# Altium schematic symbol library Maxim Amplifiers and Comparators.SchLib: 420 symbols (part 8 of 16)
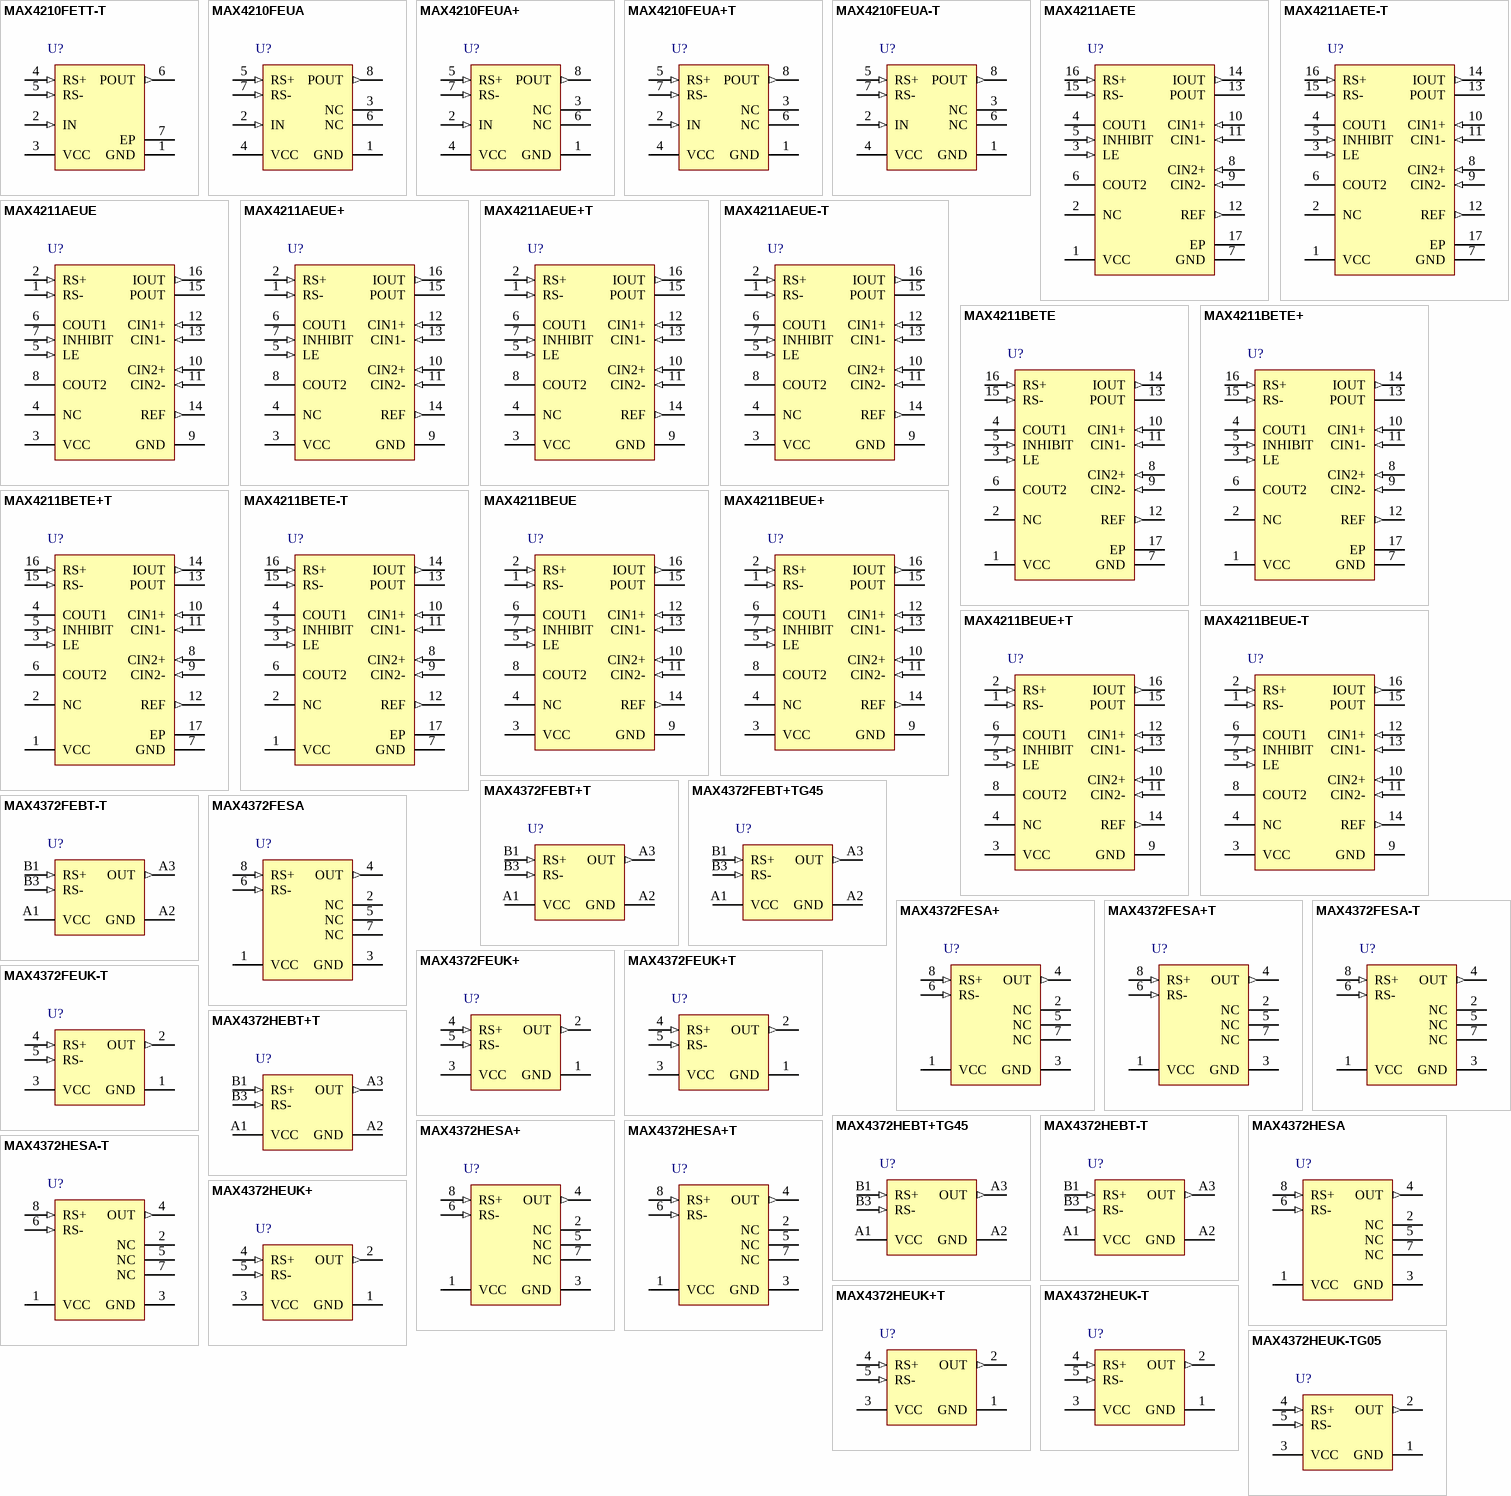
[diagram p17: symbols MAX4210FETT-T to MAX4372HEUK-TG05]

## MAX4372FEBT-T
designator U?
Micropower, Voltage-Output, High-Side, Current-Sense Amplifier, 50 V / V Gain, -40 to 85 degC, 5-Pin BGA (B6-2), Tape and Reel; PartNumber: MAX4372FEBT-T; Bi-Dir. Curr. Sense: No; Gain: 20 V/V, 50 V/V ,100 V/V; DatasheetVersion: Rev. 5; PackageVersion: Rev. H, 09/2009; PackageReference: B6-2; PackageDescription: 6-Pin Ultra Chip-Scale Package, Body 1 x 1.52 mm, Pitch 0.5 mm; Supplier 1: Mouser; Supplier Part Number 1: N/A; Mounting Technology: Surface Mount; ComponentLink1Description: Manufacturer URL; ComponentLink1URL: http://www.maximintegrated.com/; ComponentLink2Description: Datasheet; ComponentLink2URL: http://datasheets.maximintegrated.com/en/ds/MAX4372-MAX4372T.pdf; ComponentLink3Description: Package Specification; ComponentLink3URL: http://pdfserv.maximintegrated.com/package_dwgs/21-0097.PDF
footprint MAXM-B6-2 (BGA, 5-Balls, Body 1.52x1mm, Pitch 0.5mm)
pins: A1 VCC (power) "Supply Voltage. Use at least a 0.1uF capacitor to decouple VCC from fast transients.", A2 GND (power) "Ground", A3 OUT (out) "Output Voltage. VOUT is proportional to the magnitude of VSENSE (VRS+ - VRS-).", B1 RS+ (in) "Power Connection to the External Sense Resistor", B3 RS- (in) "Load-side connection to the external sense resistor"

## MAX4372FESA
designator U?
Micropower, Voltage-Output, High-Side, Current-Sense Amplifier, 50 V / V Gain, -40 to +85 degC, 8-Pin SOIC (S8-2); PartNumber: MAX4372FESA; Bi-Dir. Curr. Sense: No; Gain: 20 V/V, 50 V/V ,100 V/V; DatasheetVersion: Rev. 5; PackageVersion: Rev. D, 10/2012; PackageReference: S8-2; PackageDescription: 8-Pin Small-Outline IC, Narrow (0.15in) (S8-2), Body 4.90 x 3.90 mm, Pitch 1.27 mm; Supplier 1: Digi-Key; Supplier Part Number 1: MAX4372FESA-ND; Supplier 2: Mouser; Supplier Part Number 2: 700-MAX4372FESA-NR; Mounting Technology: Surface Mount; Code_JEDEC: MS012; ComponentLink1Description: Manufacturer URL; ComponentLink1URL: http://www.maximintegrated.com/; ComponentLink2Description: Datasheet; ComponentLink2URL: http://datasheets.maximintegrated.com/en/ds/MAX4372-MAX4372T.pdf; ComponentLink3Description: Package Specification; ComponentLink3URL: http://pdfserv.maximintegrated.com/package_dwgs/21-0041.PDF
footprint MAXM-S8-2_N (SOIC, 8-Leads, Body 4.90x3.90mm, Pitch 1.27mm, IPC Medium Density)
footprint MAXM-S8-2_L (SOIC, 8-Leads, Body 4.90x3.90mm, Pitch 1.27mm, IPC High Density)
footprint MAXM-S8-2_M (SOIC, 8-Leads, Body 4.90x3.90mm, Pitch 1.27mm, IPC Low Density)
pins: 1 VCC (power) "Supply Voltage. Use at least a 0.1uF capacitor to decouple VCC from fast transients", 2 NC "No Connection. Not internally connected.", 3 GND (power) "Ground", 4 OUT (out) "Output Voltage. VOUT is proportional to the magnitude of VSENSE (VRS+ - VRS-).", 5 NC "No Connection. Not internally connected.", 6 RS- (in) "Load connection to the external sense resistor.", 7 NC "No Connection. Not internally connected.", 8 RS+ (in) "Power connection to the external-sense resistor."

## MAX4372FESA+
designator U?
Micropower, Voltage-Output, High-Side, Current-Sense Amplifier, 50 V / V Gain, -40 to +85 degC, 8-Pin SOIC (S8+2), Pb-Free; PartNumber: MAX4372FESA+; Bi-Dir. Curr. Sense: No; Gain: 20 V/V, 50 V/V ,100 V/V; DatasheetVersion: Rev. 5; PackageVersion: Rev. D, 10/2012; PackageReference: S8+2; PackageDescription: 8-Pin Small-Outline IC, Narrow (0.15in) (S8+2), Body 4.90 x 3.90 mm, Pitch 1.27 mm; Supplier 1: Digi-Key; Supplier Part Number 1: MAX4372FESA+-ND; Supplier 2: Mouser; Supplier Part Number 2: 700-MAX4372FESA; Mounting Technology: Surface Mount; Code_JEDEC: MS012; ComponentLink1Description: Manufacturer URL; ComponentLink1URL: http://www.maximintegrated.com/; ComponentLink2Description: Datasheet; ComponentLink2URL: http://datasheets.maximintegrated.com/en/ds/MAX4372-MAX4372T.pdf; ComponentLink3Description: Package Specification; ComponentLink3URL: http://pdfserv.maximintegrated.com/package_dwgs/21-0041.PDF
footprint MAXM-S8+2_N (SOIC, 8-Leads, Body 4.90x3.90mm, Pitch 1.27mm, IPC Medium Density)
footprint MAXM-S8+2_L (SOIC, 8-Leads, Body 4.90x3.90mm, Pitch 1.27mm, IPC High Density)
footprint MAXM-S8+2_M (SOIC, 8-Leads, Body 4.90x3.90mm, Pitch 1.27mm, IPC Low Density)
pins: 1 VCC (power) "Supply Voltage. Use at least a 0.1uF capacitor to decouple VCC from fast transients", 2 NC "No Connection. Not internally connected.", 3 GND (power) "Ground", 4 OUT (out) "Output Voltage. VOUT is proportional to the magnitude of VSENSE (VRS+ - VRS-).", 5 NC "No Connection. Not internally connected.", 6 RS- (in) "Load connection to the external sense resistor.", 7 NC "No Connection. Not internally connected.", 8 RS+ (in) "Power connection to the external-sense resistor."

## MAX4372FESA+T
designator U?
Micropower, Voltage-Output, High-Side, Current-Sense Amplifier, 50 V / V Gain, -40 to 85 degC, 8-Pin SOIC (S8+2), Pb-Free, Tape and Reel; PartNumber: MAX4372FESA+T; Bi-Dir. Curr. Sense: No; Gain: 20 V/V, 50 V/V ,100 V/V; DatasheetVersion: Rev. 5; PackageVersion: Rev. D, 10/2012; PackageReference: S8+2; PackageDescription: 8-Pin Small-Outline IC, Narrow (0.15in) (S8+2), Body 4.90 x 3.90 mm, Pitch 1.27 mm; Supplier 1: Digi-Key; Supplier Part Number 1: MAX4372FESA+T-ND; Supplier 2: Mouser; Supplier Part Number 2: 700-MAX4372FESA+T; Mounting Technology: Surface Mount; Code_JEDEC: MS012; ComponentLink1Description: Manufacturer URL; ComponentLink1URL: http://www.maximintegrated.com/; ComponentLink2Description: Datasheet; ComponentLink2URL: http://datasheets.maximintegrated.com/en/ds/MAX4372-MAX4372T.pdf; ComponentLink3Description: Package Specification; ComponentLink3URL: http://pdfserv.maximintegrated.com/package_dwgs/21-0041.PDF
footprint MAXM-S8+2_N (SOIC, 8-Leads, Body 4.90x3.90mm, Pitch 1.27mm, IPC Medium Density)
footprint MAXM-S8+2_L (SOIC, 8-Leads, Body 4.90x3.90mm, Pitch 1.27mm, IPC High Density)
footprint MAXM-S8+2_M (SOIC, 8-Leads, Body 4.90x3.90mm, Pitch 1.27mm, IPC Low Density)
pins: 1 VCC (power) "Supply Voltage. Use at least a 0.1uF capacitor to decouple VCC from fast transients", 2 NC "No Connection. Not internally connected.", 3 GND (power) "Ground", 4 OUT (out) "Output Voltage. VOUT is proportional to the magnitude of VSENSE (VRS+ - VRS-).", 5 NC "No Connection. Not internally connected.", 6 RS- (in) "Load connection to the external sense resistor.", 7 NC "No Connection. Not internally connected.", 8 RS+ (in) "Power connection to the external-sense resistor."

## MAX4372FESA-T
designator U?
Micropower, Voltage-Output, High-Side, Current-Sense Amplifier, 50 V / V Gain, -40 to 85 degC, 8-Pin SOIC (S8-2), Tape and Reel; PartNumber: MAX4372FESA-T; Bi-Dir. Curr. Sense: No; Gain: 20 V/V, 50 V/V ,100 V/V; DatasheetVersion: Rev. 5; PackageVersion: Rev. D, 10/2012; PackageReference: S8-2; PackageDescription: 8-Pin Small-Outline IC, Narrow (0.15in) (S8-2), Body 4.90 x 3.90 mm, Pitch 1.27 mm; Supplier 1: Digi-Key; Supplier Part Number 1: MAX4372FESA-T-ND; Supplier 2: Mouser; Supplier Part Number 2: 700-MAX4372FESA-T-; Mounting Technology: Surface Mount; Code_JEDEC: MS012; ComponentLink1Description: Manufacturer URL; ComponentLink1URL: http://www.maximintegrated.com/; ComponentLink2Description: Datasheet; ComponentLink2URL: http://datasheets.maximintegrated.com/en/ds/MAX4372-MAX4372T.pdf; ComponentLink3Description: Package Specification; ComponentLink3URL: http://pdfserv.maximintegrated.com/package_dwgs/21-0041.PDF
footprint MAXM-S8-2_N (SOIC, 8-Leads, Body 4.90x3.90mm, Pitch 1.27mm, IPC Medium Density)
footprint MAXM-S8-2_L (SOIC, 8-Leads, Body 4.90x3.90mm, Pitch 1.27mm, IPC High Density)
footprint MAXM-S8-2_M (SOIC, 8-Leads, Body 4.90x3.90mm, Pitch 1.27mm, IPC Low Density)
pins: 1 VCC (power) "Supply Voltage. Use at least a 0.1uF capacitor to decouple VCC from fast transients", 2 NC "No Connection. Not internally connected.", 3 GND (power) "Ground", 4 OUT (out) "Output Voltage. VOUT is proportional to the magnitude of VSENSE (VRS+ - VRS-).", 5 NC "No Connection. Not internally connected.", 6 RS- (in) "Load connection to the external sense resistor.", 7 NC "No Connection. Not internally connected.", 8 RS+ (in) "Power connection to the external-sense resistor."

## MAX4372FEUK+
designator U?
Micropower, Voltage-Output, High-Side, Current-Sense Amplifier, 50 V / V Gain, -40 to +85 degC, 5-Pin SOT23 (U5+1), Pb-Free; PartNumber: MAX4372FEUK+; Bi-Dir. Curr. Sense: No; Gain: 20 V/V, 50 V/V ,100 V/V; DatasheetVersion: Rev. 5; PackageVersion: Rev. G, 04/2011; PackageReference: U5+1; PackageDescription: 5-Pin Small-Outline Transistor Package (U5+1), Body 2.90 x 1.625 mm, Pitch 0.95 mm; Supplier 1: Mouser; Supplier Part Number 1: N/A; Mounting Technology: Surface Mount; Code_JEDEC: MO178; ComponentLink1Description: Manufacturer URL; ComponentLink1URL: http://www.maximintegrated.com/; ComponentLink2Description: Datasheet; ComponentLink2URL: http://datasheets.maximintegrated.com/en/ds/MAX4372-MAX4372T.pdf; ComponentLink3Description: Package Specification; ComponentLink3URL: http://pdfserv.maximintegrated.com/package_dwgs/21-0057.PDF
footprint MAXM-U5+1_N (SOT23, 5-Leads, Body 2.9x1.625mm, Pitch 0.95mm, IPC Medium Density)
footprint MAXM-U5+1_L (SOT23, 5-Leads, Body 2.9x1.625mm, Pitch 0.95mm, IPC High Density)
footprint MAXM-U5+1_M (SOT23, 5-Leads, Body 2.9x1.625mm, Pitch 0.95mm, IPC Low Density)
pins: 1 GND (power) "Ground", 2 OUT (out) "Output Voltage. VOUT is proportional to the magnitude of VSENSE (VRS+ - VRS-).", 3 VCC (power) "Supply Voltage. Use at least a 0.1 uF capacitor to decouple VCC from fast transients.", 4 RS+ (in) "Power connection to the external sense resistor", 5 RS- (in) "Load-side connection to the external sense resistor"

## MAX4372FEUK+T
designator U?
Micropower, Voltage-Output, High-Side, Current-Sense Amplifier, 50 V / V Gain, -40 to 85 degC, 5-Pin SOT23 (U5+1), Pb-Free, Tape and Reel; PartNumber: MAX4372FEUK+T; Bi-Dir. Curr. Sense: No; Gain: 20 V/V, 50 V/V ,100 V/V; DatasheetVersion: Rev. 5; PackageVersion: Rev. G, 04/2011; PackageReference: U5+1; PackageDescription: 5-Pin Small-Outline Transistor Package (U5+1), Body 2.90 x 1.625 mm, Pitch 0.95 mm; Supplier 1: Digi-Key; Supplier Part Number 1: MAX4372FEUK+TTR-ND; Supplier 2: Digi-Key; Supplier Part Number 2: MAX4372FEUK+TCT-ND; Supplier 3: Digi-Key; Supplier Part Number 3: MAX4372FEUK+TDKR-ND; Supplier 4: Farnell; Supplier Part Number 4: 2085156; Supplier 5: Newark; Supplier Part Number 5: 89T8834; Supplier 6: Newark; Supplier Part Number 6: 68K9433; Supplier 7: Mouser; Supplier Part Number 7: 700-MAX4372FEUKT; Mounting Technology: Surface Mount; Code_JEDEC: MO178; ComponentLink1Description: Manufacturer URL; ComponentLink1URL: http://www.maximintegrated.com/; ComponentLink2Description: Datasheet; ComponentLink2URL: http://datasheets.maximintegrated.com/en/ds/MAX4372-MAX4372T.pdf; ComponentLink3Description: Package Specification; ComponentLink3URL: http://pdfserv.maximintegrated.com/package_dwgs/21-0057.PDF
footprint MAXM-U5+1_N (SOT23, 5-Leads, Body 2.9x1.625mm, Pitch 0.95mm, IPC Medium Density)
footprint MAXM-U5+1_L (SOT23, 5-Leads, Body 2.9x1.625mm, Pitch 0.95mm, IPC High Density)
footprint MAXM-U5+1_M (SOT23, 5-Leads, Body 2.9x1.625mm, Pitch 0.95mm, IPC Low Density)
pins: 1 GND (power) "Ground", 2 OUT (out) "Output Voltage. VOUT is proportional to the magnitude of VSENSE (VRS+ - VRS-).", 3 VCC (power) "Supply Voltage. Use at least a 0.1 uF capacitor to decouple VCC from fast transients.", 4 RS+ (in) "Power connection to the external sense resistor", 5 RS- (in) "Load-side connection to the external sense resistor"

## MAX4372FEUK-T
designator U?
Micropower, Voltage-Output, High-Side, Current-Sense Amplifier, 50 V / V Gain, -40 to 85 degC, 5-Pin SOT23 (U5-1), Tape and Reel; PartNumber: MAX4372FEUK-T; Bi-Dir. Curr. Sense: No; Gain: 20 V/V, 50 V/V ,100 V/V; DatasheetVersion: Rev. 5; PackageVersion: Rev. G, 04/2011; PackageReference: U5-1; PackageDescription: 5-Pin Small-Outline Transistor Package (U5-1), Body 2.9 x 1.625 mm, Pitch 0.95 mm; Supplier 1: Digi-Key; Supplier Part Number 1: MAX4372FEUK-T-ND; Supplier 2: Mouser; Supplier Part Number 2: 700-MAX4372FEUK-T-NR; Mounting Technology: Surface Mount; Code_JEDEC: MO178; ComponentLink1Description: Manufacturer URL; ComponentLink1URL: http://www.maximintegrated.com/; ComponentLink2Description: Datasheet; ComponentLink2URL: http://datasheets.maximintegrated.com/en/ds/MAX4372-MAX4372T.pdf; ComponentLink3Description: Package Specification; ComponentLink3URL: http://pdfserv.maximintegrated.com/package_dwgs/21-0057.PDF
footprint MAXM-U5-1_N (SOT23, 5-Leads, Body 2.9x1.625mm, Pitch 0.95mm, IPC Medium Density)
footprint MAXM-U5-1_L (SOT23, 5-Leads, Body 2.9x1.625mm, Pitch 0.95mm, IPC High Density)
footprint MAXM-U5-1_M (SOT23, 5-Leads, Body 2.9x1.625mm, Pitch 0.95mm, IPC Low Density)
pins: 1 GND (power) "Ground", 2 OUT (out) "Output Voltage. VOUT is proportional to the magnitude of VSENSE (VRS+ - VRS-).", 3 VCC (power) "Supply Voltage. Use at least a 0.1 uF capacitor to decouple VCC from fast transients.", 4 RS+ (in) "Power connection to the external sense resistor", 5 RS- (in) "Load-side connection to the external sense resistor"

## MAX4372HEBT+T
designator U?
Micropower, Voltage-Output, High-Side, Current-Sense Amplifier, 100 V / V Gain, -40 to 85 degC, 5-Pin BGA (B6+2), Pb-Free, Tape and Reel; PartNumber: MAX4372HEBT+T; Bi-Dir. Curr. Sense: No; Gain: 20 V/V, 50 V/V ,100 V/V; DatasheetVersion: Rev. 5; PackageVersion: Rev. H, 09/2009; PackageReference: B6+2; PackageDescription: 6-Pin Ultra Chip-Scale Package, Body 1 x 1.52 mm, Pitch 0.5 mm; Supplier 1: Digi-Key; Supplier Part Number 1: MAX4372HEBT+T-ND; Supplier 2: Mouser; Supplier Part Number 2: 700-MAX4372HEBT+T; Mounting Technology: Surface Mount; ComponentLink1Description: Manufacturer URL; ComponentLink1URL: http://www.maximintegrated.com/; ComponentLink2Description: Datasheet; ComponentLink2URL: http://datasheets.maximintegrated.com/en/ds/MAX4372-MAX4372T.pdf; ComponentLink3Description: Package Specification; ComponentLink3URL: http://pdfserv.maximintegrated.com/package_dwgs/21-0097.PDF
footprint MAXM-B6+2 (BGA, 5-Balls, Body 1.52x1mm, Pitch 0.5mm)
pins: A1 VCC (power) "Supply Voltage. Use at least a 0.1uF capacitor to decouple VCC from fast transients.", A2 GND (power) "Ground", A3 OUT (out) "Output Voltage. VOUT is proportional to the magnitude of VSENSE (VRS+ - VRS-).", B1 RS+ (in) "Power Connection to the External Sense Resistor", B3 RS- (in) "Load-side connection to the external sense resistor"

## MAX4372HEBT+TG45
designator U?
Micropower, Voltage-Output, High-Side, Current-Sense Amplifier, 100 V / V Gain, -40 to 85 degC, 5-Pin BGA (B6+2), Pb-Free; PartNumber: MAX4372HEBT+TG45; Bi-Dir. Curr. Sense: No; Gain: 20 V/V, 50 V/V ,100 V/V; DatasheetVersion: Rev. 5; PackageVersion: Rev. H, 09/2009; PackageReference: B6+2; PackageDescription: 6-Pin Ultra Chip-Scale Package, Body 1 x 1.52 mm, Pitch 0.5 mm; Supplier 1: Digi-Key; Supplier Part Number 1: MAX4372HEBT+TG45-ND; Supplier 2: Mouser; Supplier Part Number 2: 700-MAX4372HEBT+TG45; Mounting Technology: Surface Mount; ComponentLink1Description: Manufacturer URL; ComponentLink1URL: http://www.maximintegrated.com/; ComponentLink2Description: Datasheet; ComponentLink2URL: http://datasheets.maximintegrated.com/en/ds/MAX4372-MAX4372T.pdf; ComponentLink3Description: Package Specification; ComponentLink3URL: http://pdfserv.maximintegrated.com/package_dwgs/21-0097.PDF
footprint MAXM-B6+2 (BGA, 5-Balls, Body 1.52x1mm, Pitch 0.5mm)
pins: A1 VCC (power) "Supply Voltage. Use at least a 0.1uF capacitor to decouple VCC from fast transients.", A2 GND (power) "Ground", A3 OUT (out) "Output Voltage. VOUT is proportional to the magnitude of VSENSE (VRS+ - VRS-).", B1 RS+ (in) "Power Connection to the External Sense Resistor", B3 RS- (in) "Load-side connection to the external sense resistor"

## MAX4372HEBT-T
designator U?
Micropower, Voltage-Output, High-Side, Current-Sense Amplifier, 100 V / V Gain, -40 to 85 degC, 5-Pin BGA (B6-2), Tape and Reel; PartNumber: MAX4372HEBT-T; Bi-Dir. Curr. Sense: No; Gain: 20 V/V, 50 V/V ,100 V/V; DatasheetVersion: Rev. 5; PackageVersion: Rev. H, 09/2009; PackageReference: B6-2; PackageDescription: 6-Pin Ultra Chip-Scale Package, Body 1 x 1.52 mm, Pitch 0.5 mm; Supplier 1: Mouser; Supplier Part Number 1: N/A; Mounting Technology: Surface Mount; ComponentLink1Description: Manufacturer URL; ComponentLink1URL: http://www.maximintegrated.com/; ComponentLink2Description: Datasheet; ComponentLink2URL: http://datasheets.maximintegrated.com/en/ds/MAX4372-MAX4372T.pdf; ComponentLink3Description: Package Specification; ComponentLink3URL: http://pdfserv.maximintegrated.com/package_dwgs/21-0097.PDF
footprint MAXM-B6-2 (BGA, 5-Balls, Body 1.52x1mm, Pitch 0.5mm)
pins: A1 VCC (power) "Supply Voltage. Use at least a 0.1uF capacitor to decouple VCC from fast transients.", A2 GND (power) "Ground", A3 OUT (out) "Output Voltage. VOUT is proportional to the magnitude of VSENSE (VRS+ - VRS-).", B1 RS+ (in) "Power Connection to the External Sense Resistor", B3 RS- (in) "Load-side connection to the external sense resistor"

## MAX4372HESA
designator U?
Micropower, Voltage-Output, High-Side, Current-Sense Amplifier, 100 V / V Gain, -40 to +85 degC, 8-Pin SOIC (S8-2); PartNumber: MAX4372HESA; Bi-Dir. Curr. Sense: No; Gain: 20 V/V, 50 V/V ,100 V/V; DatasheetVersion: Rev. 5; PackageVersion: Rev. D, 10/2012; PackageReference: S8-2; PackageDescription: 8-Pin Small-Outline IC, Narrow (0.15in) (S8-2), Body 4.90 x 3.90 mm, Pitch 1.27 mm; Supplier 1: Digi-Key; Supplier Part Number 1: MAX4372HESA-ND; Supplier 2: Mouser; Supplier Part Number 2: 700-MAX4372HESA-NR; Mounting Technology: Surface Mount; Code_JEDEC: MS012; ComponentLink1Description: Manufacturer URL; ComponentLink1URL: http://www.maximintegrated.com/; ComponentLink2Description: Datasheet; ComponentLink2URL: http://datasheets.maximintegrated.com/en/ds/MAX4372-MAX4372T.pdf; ComponentLink3Description: Package Specification; ComponentLink3URL: http://pdfserv.maximintegrated.com/package_dwgs/21-0041.PDF
footprint MAXM-S8-2_N (SOIC, 8-Leads, Body 4.90x3.90mm, Pitch 1.27mm, IPC Medium Density)
footprint MAXM-S8-2_L (SOIC, 8-Leads, Body 4.90x3.90mm, Pitch 1.27mm, IPC High Density)
footprint MAXM-S8-2_M (SOIC, 8-Leads, Body 4.90x3.90mm, Pitch 1.27mm, IPC Low Density)
pins: 1 VCC (power) "Supply Voltage. Use at least a 0.1uF capacitor to decouple VCC from fast transients", 2 NC "No Connection. Not internally connected.", 3 GND (power) "Ground", 4 OUT (out) "Output Voltage. VOUT is proportional to the magnitude of VSENSE (VRS+ - VRS-).", 5 NC "No Connection. Not internally connected.", 6 RS- (in) "Load connection to the external sense resistor.", 7 NC "No Connection. Not internally connected.", 8 RS+ (in) "Power connection to the external-sense resistor."

## MAX4372HESA+
designator U?
Micropower, Voltage-Output, High-Side, Current-Sense Amplifier, 100 V / V Gain, -40 to +85 degC, 8-Pin SOIC (S8+2), Pb-Free; PartNumber: MAX4372HESA+; Bi-Dir. Curr. Sense: No; Gain: 20 V/V, 50 V/V ,100 V/V; DatasheetVersion: Rev. 5; PackageVersion: Rev. D, 10/2012; PackageReference: S8+2; PackageDescription: 8-Pin Small-Outline IC, Narrow (0.15in) (S8+2), Body 4.90 x 3.90 mm, Pitch 1.27 mm; Supplier 1: Digi-Key; Supplier Part Number 1: MAX4372HESA+-ND; Supplier 2: Mouser; Supplier Part Number 2: 700-MAX4372HESA; Mounting Technology: Surface Mount; Code_JEDEC: MS012; ComponentLink1Description: Manufacturer URL; ComponentLink1URL: http://www.maximintegrated.com/; ComponentLink2Description: Datasheet; ComponentLink2URL: http://datasheets.maximintegrated.com/en/ds/MAX4372-MAX4372T.pdf; ComponentLink3Description: Package Specification; ComponentLink3URL: http://pdfserv.maximintegrated.com/package_dwgs/21-0041.PDF
footprint MAXM-S8+2_N (SOIC, 8-Leads, Body 4.90x3.90mm, Pitch 1.27mm, IPC Medium Density)
footprint MAXM-S8+2_L (SOIC, 8-Leads, Body 4.90x3.90mm, Pitch 1.27mm, IPC High Density)
footprint MAXM-S8+2_M (SOIC, 8-Leads, Body 4.90x3.90mm, Pitch 1.27mm, IPC Low Density)
pins: 1 VCC (power) "Supply Voltage. Use at least a 0.1uF capacitor to decouple VCC from fast transients", 2 NC "No Connection. Not internally connected.", 3 GND (power) "Ground", 4 OUT (out) "Output Voltage. VOUT is proportional to the magnitude of VSENSE (VRS+ - VRS-).", 5 NC "No Connection. Not internally connected.", 6 RS- (in) "Load connection to the external sense resistor.", 7 NC "No Connection. Not internally connected.", 8 RS+ (in) "Power connection to the external-sense resistor."

## MAX4372HESA+T
designator U?
Micropower, Voltage-Output, High-Side, Current-Sense Amplifier, 100 V / V Gain, -40 to 85 degC, 8-Pin SOIC (S8+2), Pb-Free, Tape and Reel; PartNumber: MAX4372HESA+T; Bi-Dir. Curr. Sense: No; Gain: 20 V/V, 50 V/V ,100 V/V; DatasheetVersion: Rev. 5; PackageVersion: Rev. D, 10/2012; PackageReference: S8+2; PackageDescription: 8-Pin Small-Outline IC, Narrow (0.15in) (S8+2), Body 4.90 x 3.90 mm, Pitch 1.27 mm; Supplier 1: Digi-Key; Supplier Part Number 1: MAX4372HESA+T-ND; Supplier 2: Mouser; Supplier Part Number 2: 700-MAX4372HESA+T; Mounting Technology: Surface Mount; Code_JEDEC: MS012; ComponentLink1Description: Manufacturer URL; ComponentLink1URL: http://www.maximintegrated.com/; ComponentLink2Description: Datasheet; ComponentLink2URL: http://datasheets.maximintegrated.com/en/ds/MAX4372-MAX4372T.pdf; ComponentLink3Description: Package Specification; ComponentLink3URL: http://pdfserv.maximintegrated.com/package_dwgs/21-0041.PDF
footprint MAXM-S8+2_N (SOIC, 8-Leads, Body 4.90x3.90mm, Pitch 1.27mm, IPC Medium Density)
footprint MAXM-S8+2_L (SOIC, 8-Leads, Body 4.90x3.90mm, Pitch 1.27mm, IPC High Density)
footprint MAXM-S8+2_M (SOIC, 8-Leads, Body 4.90x3.90mm, Pitch 1.27mm, IPC Low Density)
pins: 1 VCC (power) "Supply Voltage. Use at least a 0.1uF capacitor to decouple VCC from fast transients", 2 NC "No Connection. Not internally connected.", 3 GND (power) "Ground", 4 OUT (out) "Output Voltage. VOUT is proportional to the magnitude of VSENSE (VRS+ - VRS-).", 5 NC "No Connection. Not internally connected.", 6 RS- (in) "Load connection to the external sense resistor.", 7 NC "No Connection. Not internally connected.", 8 RS+ (in) "Power connection to the external-sense resistor."

## MAX4372HESA-T
designator U?
Micropower, Voltage-Output, High-Side, Current-Sense Amplifier, 100 V / V Gain, -40 to 85 degC, 8-Pin SOIC (S8-2), Tape and Reel; PartNumber: MAX4372HESA-T; Bi-Dir. Curr. Sense: No; Gain: 20 V/V, 50 V/V ,100 V/V; DatasheetVersion: Rev. 5; PackageVersion: Rev. D, 10/2012; PackageReference: S8-2; PackageDescription: 8-Pin Small-Outline IC, Narrow (0.15in) (S8-2), Body 4.90 x 3.90 mm, Pitch 1.27 mm; Supplier 1: Digi-Key; Supplier Part Number 1: MAX4372HESA-T-ND; Supplier 2: Mouser; Supplier Part Number 2: 700-MAX4372HESA-T-; Mounting Technology: Surface Mount; Code_JEDEC: MS012; ComponentLink1Description: Manufacturer URL; ComponentLink1URL: http://www.maximintegrated.com/; ComponentLink2Description: Datasheet; ComponentLink2URL: http://datasheets.maximintegrated.com/en/ds/MAX4372-MAX4372T.pdf; ComponentLink3Description: Package Specification; ComponentLink3URL: http://pdfserv.maximintegrated.com/package_dwgs/21-0041.PDF
footprint MAXM-S8-2_N (SOIC, 8-Leads, Body 4.90x3.90mm, Pitch 1.27mm, IPC Medium Density)
footprint MAXM-S8-2_L (SOIC, 8-Leads, Body 4.90x3.90mm, Pitch 1.27mm, IPC High Density)
footprint MAXM-S8-2_M (SOIC, 8-Leads, Body 4.90x3.90mm, Pitch 1.27mm, IPC Low Density)
pins: 1 VCC (power) "Supply Voltage. Use at least a 0.1uF capacitor to decouple VCC from fast transients", 2 NC "No Connection. Not internally connected.", 3 GND (power) "Ground", 4 OUT (out) "Output Voltage. VOUT is proportional to the magnitude of VSENSE (VRS+ - VRS-).", 5 NC "No Connection. Not internally connected.", 6 RS- (in) "Load connection to the external sense resistor.", 7 NC "No Connection. Not internally connected.", 8 RS+ (in) "Power connection to the external-sense resistor."

## MAX4372HEUK+
designator U?
Micropower, Voltage-Output, High-Side, Current-Sense Amplifier, 100 V / V Gain, -40 to +85 degC, 5-Pin SOT23 (U5+1), Pb-Free; PartNumber: MAX4372HEUK+; Bi-Dir. Curr. Sense: No; Gain: 20 V/V, 50 V/V ,100 V/V; DatasheetVersion: Rev. 5; PackageVersion: Rev. G, 04/2011; PackageReference: U5+1; PackageDescription: 5-Pin Small-Outline Transistor Package (U5+1), Body 2.90 x 1.625 mm, Pitch 0.95 mm; Supplier 1: Mouser; Supplier Part Number 1: N/A; Mounting Technology: Surface Mount; Code_JEDEC: MO178; ComponentLink1Description: Manufacturer URL; ComponentLink1URL: http://www.maximintegrated.com/; ComponentLink2Description: Datasheet; ComponentLink2URL: http://datasheets.maximintegrated.com/en/ds/MAX4372-MAX4372T.pdf; ComponentLink3Description: Package Specification; ComponentLink3URL: http://pdfserv.maximintegrated.com/package_dwgs/21-0057.PDF
footprint MAXM-U5+1_N (SOT23, 5-Leads, Body 2.9x1.625mm, Pitch 0.95mm, IPC Medium Density)
footprint MAXM-U5+1_L (SOT23, 5-Leads, Body 2.9x1.625mm, Pitch 0.95mm, IPC High Density)
footprint MAXM-U5+1_M (SOT23, 5-Leads, Body 2.9x1.625mm, Pitch 0.95mm, IPC Low Density)
pins: 1 GND (power) "Ground", 2 OUT (out) "Output Voltage. VOUT is proportional to the magnitude of VSENSE (VRS+ - VRS-).", 3 VCC (power) "Supply Voltage. Use at least a 0.1 uF capacitor to decouple VCC from fast transients.", 4 RS+ (in) "Power connection to the external sense resistor", 5 RS- (in) "Load-side connection to the external sense resistor"

## MAX4372HEUK+T
designator U?
Micropower, Voltage-Output, High-Side, Current-Sense Amplifier, 100 V / V Gain, -40 to 85 degC, 5-Pin SOT23 (U5+1), Pb-Free, Tape and Reel; PartNumber: MAX4372HEUK+T; Bi-Dir. Curr. Sense: No; Gain: 20 V/V, 50 V/V ,100 V/V; DatasheetVersion: Rev. 5; PackageVersion: Rev. G, 04/2011; PackageReference: U5+1; PackageDescription: 5-Pin Small-Outline Transistor Package (U5+1), Body 2.90 x 1.625 mm, Pitch 0.95 mm; Supplier 1: Digi-Key; Supplier Part Number 1: MAX4372HEUK+TTR-ND; Supplier 2: Digi-Key; Supplier Part Number 2: MAX4372HEUK+TCT-ND; Supplier 3: Digi-Key; Supplier Part Number 3: MAX4372HEUK+TDKR-ND; Supplier 4: Mouser; Supplier Part Number 4: 700-MAX4372HEUK+T; Mounting Technology: Surface Mount; Code_JEDEC: MO178; ComponentLink1Description: Manufacturer URL; ComponentLink1URL: http://www.maximintegrated.com/; ComponentLink2Description: Datasheet; ComponentLink2URL: http://datasheets.maximintegrated.com/en/ds/MAX4372-MAX4372T.pdf; ComponentLink3Description: Package Specification; ComponentLink3URL: http://pdfserv.maximintegrated.com/package_dwgs/21-0057.PDF
footprint MAXM-U5+1_N (SOT23, 5-Leads, Body 2.9x1.625mm, Pitch 0.95mm, IPC Medium Density)
footprint MAXM-U5+1_L (SOT23, 5-Leads, Body 2.9x1.625mm, Pitch 0.95mm, IPC High Density)
footprint MAXM-U5+1_M (SOT23, 5-Leads, Body 2.9x1.625mm, Pitch 0.95mm, IPC Low Density)
pins: 1 GND (power) "Ground", 2 OUT (out) "Output Voltage. VOUT is proportional to the magnitude of VSENSE (VRS+ - VRS-).", 3 VCC (power) "Supply Voltage. Use at least a 0.1 uF capacitor to decouple VCC from fast transients.", 4 RS+ (in) "Power connection to the external sense resistor", 5 RS- (in) "Load-side connection to the external sense resistor"

## MAX4372HEUK-T
designator U?
Micropower, Voltage-Output, High-Side, Current-Sense Amplifier, 100 V / V Gain, -40 to 85 degC, 5-Pin SOT23 (U5-1), Tape and Reel; PartNumber: MAX4372HEUK-T; Bi-Dir. Curr. Sense: No; Gain: 20 V/V, 50 V/V ,100 V/V; DatasheetVersion: Rev. 5; PackageVersion: Rev. G, 04/2011; PackageReference: U5-1; PackageDescription: 5-Pin Small-Outline Transistor Package (U5-1), Body 2.9 x 1.625 mm, Pitch 0.95 mm; Supplier 1: Digi-Key; Supplier Part Number 1: MAX4372HEUK-T-ND; Supplier 2: Mouser; Supplier Part Number 2: N/A; Mounting Technology: Surface Mount; Code_JEDEC: MO178; ComponentLink1Description: Manufacturer URL; ComponentLink1URL: http://www.maximintegrated.com/; ComponentLink2Description: Datasheet; ComponentLink2URL: http://datasheets.maximintegrated.com/en/ds/MAX4372-MAX4372T.pdf; ComponentLink3Description: Package Specification; ComponentLink3URL: http://pdfserv.maximintegrated.com/package_dwgs/21-0057.PDF
footprint MAXM-U5-1_N (SOT23, 5-Leads, Body 2.9x1.625mm, Pitch 0.95mm, IPC Medium Density)
footprint MAXM-U5-1_L (SOT23, 5-Leads, Body 2.9x1.625mm, Pitch 0.95mm, IPC High Density)
footprint MAXM-U5-1_M (SOT23, 5-Leads, Body 2.9x1.625mm, Pitch 0.95mm, IPC Low Density)
pins: 1 GND (power) "Ground", 2 OUT (out) "Output Voltage. VOUT is proportional to the magnitude of VSENSE (VRS+ - VRS-).", 3 VCC (power) "Supply Voltage. Use at least a 0.1 uF capacitor to decouple VCC from fast transients.", 4 RS+ (in) "Power connection to the external sense resistor", 5 RS- (in) "Load-side connection to the external sense resistor"

## MAX4372HEUK-TG05
designator U?
Micropower, Voltage-Output, High-Side, Current-Sense Amplifier, 100 V / V Gain, -40 to 85 degC, 5-Pin SOT23 (U5-1), Tape and Reel; PartNumber: MAX4372HEUK-TG05; Bi-Dir. Curr. Sense: No; Gain: 20 V/V, 50 V/V ,100 V/V; DatasheetVersion: Rev. 5; PackageVersion: Rev. G, 04/2011; PackageReference: U5-1; PackageDescription: 5-Pin Small-Outline Transistor Package (U5-1), Body 2.9 x 1.625 mm, Pitch 0.95 mm; Supplier 1: Digi-Key; Supplier Part Number 1: MAX4372HEUK-TG05-ND; Supplier 2: Mouser; Supplier Part Number 2: 700-4372HEUK-TG05-; Mounting Technology: Surface Mount; Code_JEDEC: MO178; ComponentLink1Description: Manufacturer URL; ComponentLink1URL: http://www.maximintegrated.com/; ComponentLink2Description: Datasheet; ComponentLink2URL: http://datasheets.maximintegrated.com/en/ds/MAX4372-MAX4372T.pdf; ComponentLink3Description: Package Specification; ComponentLink3URL: http://pdfserv.maximintegrated.com/package_dwgs/21-0057.PDF
footprint MAXM-U5-1_N (SOT23, 5-Leads, Body 2.9x1.625mm, Pitch 0.95mm, IPC Medium Density)
footprint MAXM-U5-1_L (SOT23, 5-Leads, Body 2.9x1.625mm, Pitch 0.95mm, IPC High Density)
footprint MAXM-U5-1_M (SOT23, 5-Leads, Body 2.9x1.625mm, Pitch 0.95mm, IPC Low Density)
pins: 1 GND (power) "Ground", 2 OUT (out) "Output Voltage. VOUT is proportional to the magnitude of VSENSE (VRS+ - VRS-).", 3 VCC (power) "Supply Voltage. Use at least a 0.1 uF capacitor to decouple VCC from fast transients.", 4 RS+ (in) "Power connection to the external sense resistor", 5 RS- (in) "Load-side connection to the external sense resistor"

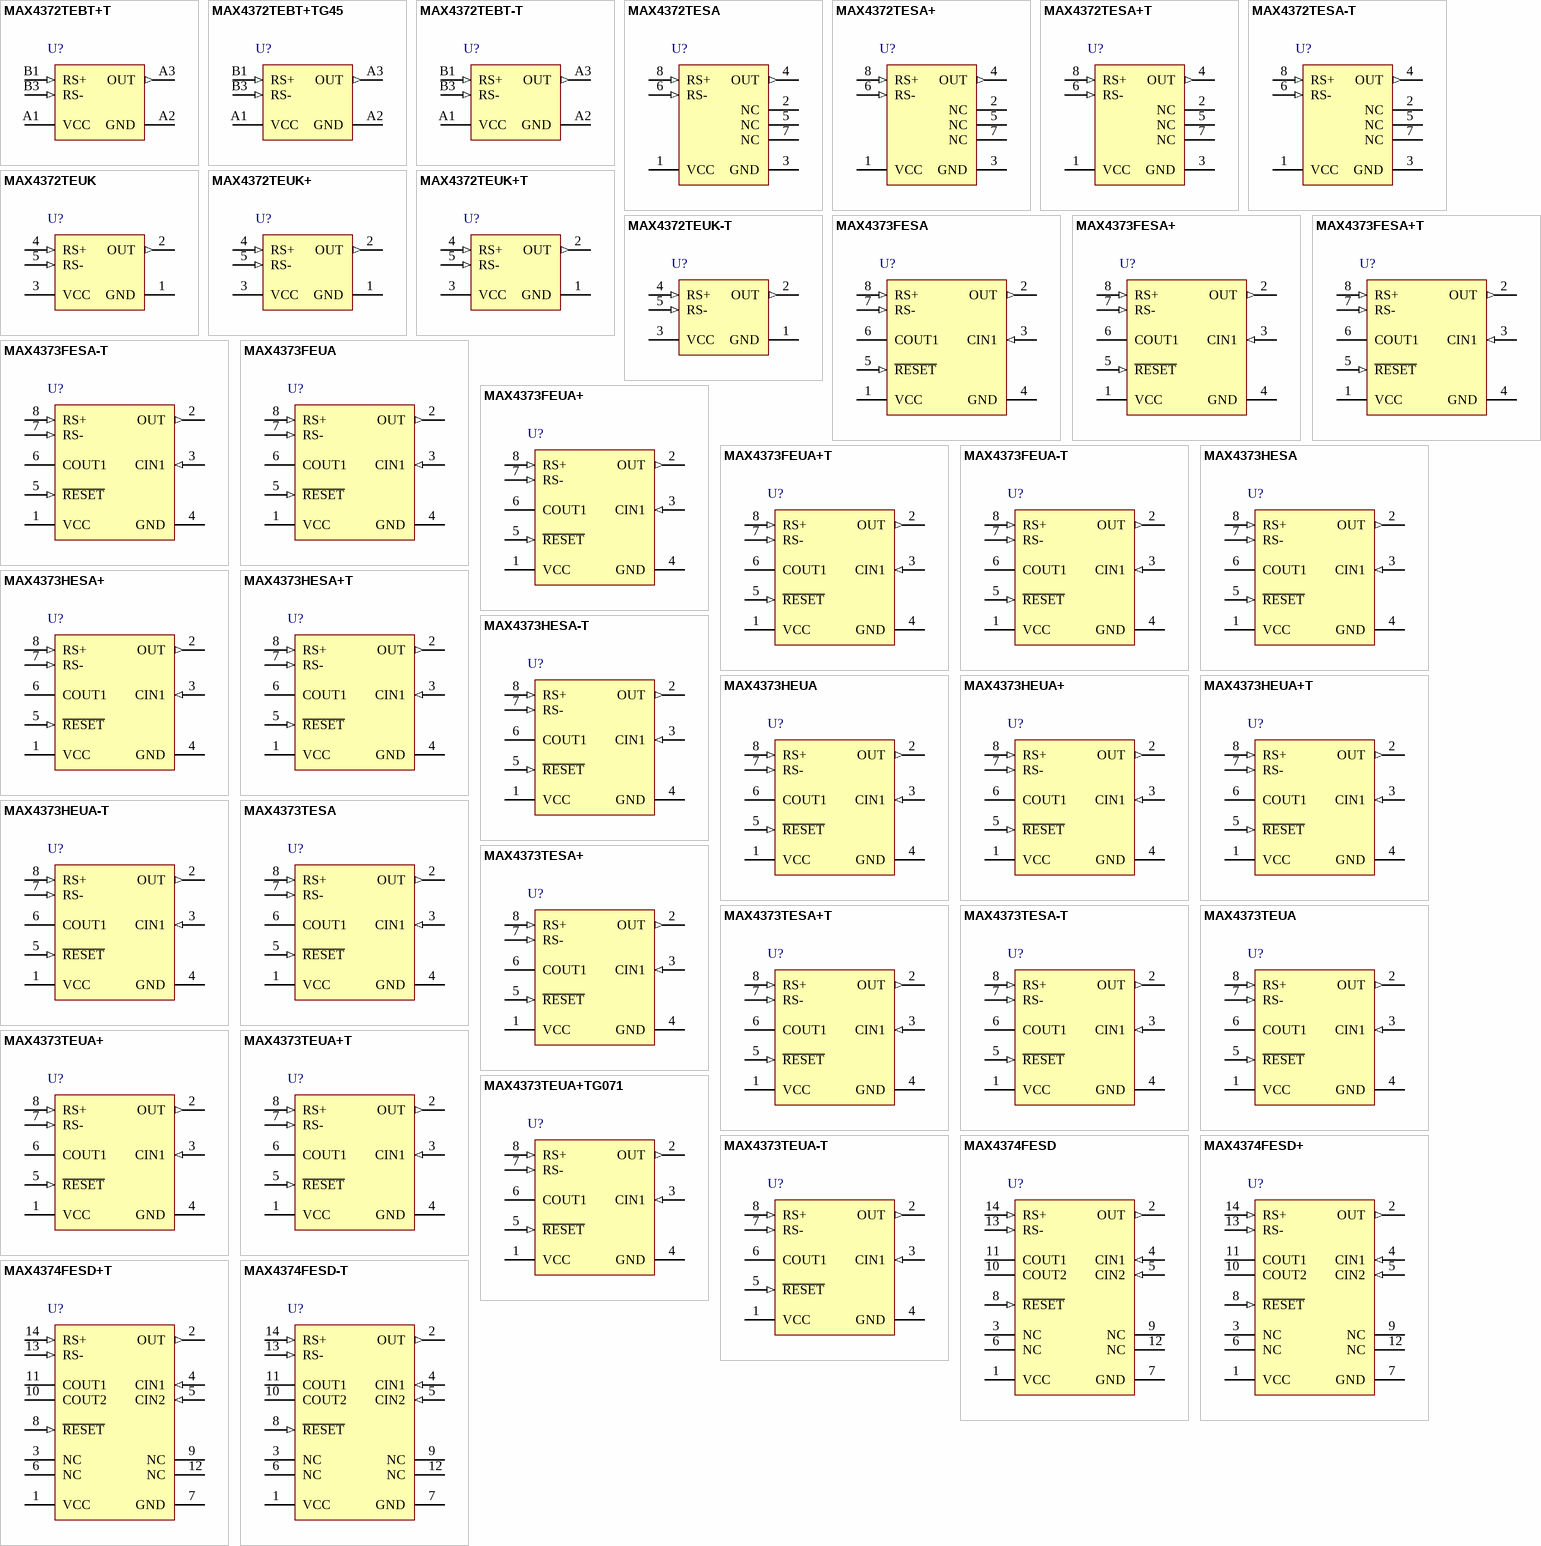
[diagram p5: symbols MAX4372TEBT+T to MAX4374FESD-T]

## MAX4372TEBT+T
designator U?
Micropower, Voltage-Output, High-Side, Current-Sense Amplifier, 20 V / V Gain, -40 to 85 degC, 6-Pin BGA (B6+2), Pb-Free, Tape and Reel; PartNumber: MAX4372TEBT+T; Bi-Dir. Curr. Sense: No; Gain: 20 V/V, 50 V/V ,100 V/V; DatasheetVersion: Rev. 5; PackageVersion: Rev. H, 09/2009; PackageReference: B6+2; PackageDescription: 6-Pin Ultra Chip-Scale Package, Body 1 x 1.52 mm, Pitch 0.5 mm; Supplier 1: Digi-Key; Supplier Part Number 1: MAX4372TEBT+TTR-ND; Supplier 2: Digi-Key; Supplier Part Number 2: MAX4372TEBT+TCT-ND; Supplier 3: Digi-Key; Supplier Part Number 3: MAX4372TEBT+TDKR-ND; Supplier 4: Mouser; Supplier Part Number 4: 700-MAX4372TEBT+T; Mounting Technology: Surface Mount; ComponentLink1Description: Manufacturer URL; ComponentLink1URL: http://www.maximintegrated.com/; ComponentLink2Description: Datasheet; ComponentLink2URL: http://datasheets.maximintegrated.com/en/ds/MAX4372-MAX4372T.pdf; ComponentLink3Description: Package Specification; ComponentLink3URL: http://pdfserv.maximintegrated.com/package_dwgs/21-0097.PDF
footprint MAXM-B6+2 (BGA, 5-Balls, Body 1.52x1mm, Pitch 0.5mm)
pins: A1 VCC (power) "Supply Voltage. Use at least a 0.1uF capacitor to decouple VCC from fast transients.", A2 GND (power) "Ground", A3 OUT (out) "Output Voltage. VOUT is proportional to the magnitude of VSENSE (VRS+ - VRS-).", B1 RS+ (in) "Power Connection to the External Sense Resistor", B3 RS- (in) "Load-side connection to the external sense resistor"

## MAX4372TEBT+TG45
designator U?
Micropower, Voltage-Output, High-Side, Current-Sense Amplifier, 20 V / V Gain, -40 to 85 degC, 6-Pin BGA (B6+2), Pb-Free, Tape and Reel; PartNumber: MAX4372TEBT+TG45; Bi-Dir. Curr. Sense: No; Gain: 20 V/V, 50 V/V ,100 V/V; DatasheetVersion: Rev. 5; PackageVersion: Rev. H, 09/2009; PackageReference: B6+2; PackageDescription: 6-Pin Ultra Chip-Scale Package, Body 1 x 1.52 mm, Pitch 0.5 mm; Supplier 1: Digi-Key; Supplier Part Number 1: MAX4372TEBT+TG45-ND; Supplier 2: Mouser; Supplier Part Number 2: 700-MAX4372TEBT+TG45; Mounting Technology: Surface Mount; ComponentLink1Description: Manufacturer URL; ComponentLink1URL: http://www.maximintegrated.com/; ComponentLink2Description: Datasheet; ComponentLink2URL: http://datasheets.maximintegrated.com/en/ds/MAX4372-MAX4372T.pdf; ComponentLink3Description: Package Specification; ComponentLink3URL: http://pdfserv.maximintegrated.com/package_dwgs/21-0097.PDF
footprint MAXM-B6+2 (BGA, 5-Balls, Body 1.52x1mm, Pitch 0.5mm)
pins: A1 VCC (power) "Supply Voltage. Use at least a 0.1uF capacitor to decouple VCC from fast transients.", A2 GND (power) "Ground", A3 OUT (out) "Output Voltage. VOUT is proportional to the magnitude of VSENSE (VRS+ - VRS-).", B1 RS+ (in) "Power Connection to the External Sense Resistor", B3 RS- (in) "Load-side connection to the external sense resistor"

## MAX4372TEBT-T
designator U?
Micropower, Voltage-Output, High-Side, Current-Sense Amplifier, 20 V / V Gain, -40 to 85 degC, 6-Pin BGA (B6-2), Tape and Reel; PartNumber: MAX4372TEBT-T; Bi-Dir. Curr. Sense: No; Gain: 20 V/V, 50 V/V ,100 V/V; DatasheetVersion: Rev. 5; PackageVersion: Rev. H, 09/2009; PackageReference: B6-2; PackageDescription: 6-Pin Ultra Chip-Scale Package, Body 1 x 1.52 mm, Pitch 0.5 mm; Supplier 1: Mouser; Supplier Part Number 1: N/A; Mounting Technology: Surface Mount; ComponentLink1Description: Manufacturer URL; ComponentLink1URL: http://www.maximintegrated.com/; ComponentLink2Description: Datasheet; ComponentLink2URL: http://datasheets.maximintegrated.com/en/ds/MAX4372-MAX4372T.pdf; ComponentLink3Description: Package Specification; ComponentLink3URL: http://pdfserv.maximintegrated.com/package_dwgs/21-0097.PDF
footprint MAXM-B6-2 (BGA, 5-Balls, Body 1.52x1mm, Pitch 0.5mm)
pins: A1 VCC (power) "Supply Voltage. Use at least a 0.1uF capacitor to decouple VCC from fast transients.", A2 GND (power) "Ground", A3 OUT (out) "Output Voltage. VOUT is proportional to the magnitude of VSENSE (VRS+ - VRS-).", B1 RS+ (in) "Power Connection to the External Sense Resistor", B3 RS- (in) "Load-side connection to the external sense resistor"

## MAX4372TESA
designator U?
Micropower, Voltage-Output, High-Side, Current-Sense Amplifier, 20 V / V Gain, -40 to +85 degC, 8-Pin SOIC (S8-2); PartNumber: MAX4372TESA; Bi-Dir. Curr. Sense: No; Gain: 20 V/V, 50 V/V ,100 V/V; DatasheetVersion: Rev. 5; PackageVersion: Rev. D, 10/2012; PackageReference: S8-2; PackageDescription: 8-Pin Small-Outline IC, Narrow (0.15in) (S8-2), Body 4.90 x 3.90 mm, Pitch 1.27 mm; Supplier 1: Mouser; Supplier Part Number 1: N/A; Mounting Technology: Surface Mount; Code_JEDEC: MS012; ComponentLink1Description: Manufacturer URL; ComponentLink1URL: http://www.maximintegrated.com/; ComponentLink2Description: Datasheet; ComponentLink2URL: http://datasheets.maximintegrated.com/en/ds/MAX4372-MAX4372T.pdf; ComponentLink3Description: Package Specification; ComponentLink3URL: http://pdfserv.maximintegrated.com/package_dwgs/21-0041.PDF
footprint MAXM-S8-2_N (SOIC, 8-Leads, Body 4.90x3.90mm, Pitch 1.27mm, IPC Medium Density)
footprint MAXM-S8-2_L (SOIC, 8-Leads, Body 4.90x3.90mm, Pitch 1.27mm, IPC High Density)
footprint MAXM-S8-2_M (SOIC, 8-Leads, Body 4.90x3.90mm, Pitch 1.27mm, IPC Low Density)
pins: 1 VCC (power) "Supply Voltage. Use at least a 0.1uF capacitor to decouple VCC from fast transients", 2 NC "No Connection. Not internally connected.", 3 GND (power) "Ground", 4 OUT (out) "Output Voltage. VOUT is proportional to the magnitude of VSENSE (VRS+ - VRS-).", 5 NC "No Connection. Not internally connected.", 6 RS- (in) "Load connection to the external sense resistor.", 7 NC "No Connection. Not internally connected.", 8 RS+ (in) "Power connection to the external-sense resistor."

## MAX4372TESA+
designator U?
Micropower, Voltage-Output, High-Side, Current-Sense Amplifier, 20 V / V Gain, -40 to +85 degC, 8-Pin SOIC (S8+2), Pb-Free; PartNumber: MAX4372TESA+; Bi-Dir. Curr. Sense: No; Gain: 20 V/V, 50 V/V ,100 V/V; DatasheetVersion: Rev. 5; PackageVersion: Rev. D, 10/2012; PackageReference: S8+2; PackageDescription: 8-Pin Small-Outline IC, Narrow (0.15in) (S8+2), Body 4.90 x 3.90 mm, Pitch 1.27 mm; Supplier 1: Digi-Key; Supplier Part Number 1: MAX4372TESA+-ND; Supplier 2: Mouser; Supplier Part Number 2: 700-MAX4372TESA; Mounting Technology: Surface Mount; Code_JEDEC: MS012; ComponentLink1Description: Manufacturer URL; ComponentLink1URL: http://www.maximintegrated.com/; ComponentLink2Description: Datasheet; ComponentLink2URL: http://datasheets.maximintegrated.com/en/ds/MAX4372-MAX4372T.pdf; ComponentLink3Description: Package Specification; ComponentLink3URL: http://pdfserv.maximintegrated.com/package_dwgs/21-0041.PDF
footprint MAXM-S8+2_N (SOIC, 8-Leads, Body 4.90x3.90mm, Pitch 1.27mm, IPC Medium Density)
footprint MAXM-S8+2_L (SOIC, 8-Leads, Body 4.90x3.90mm, Pitch 1.27mm, IPC High Density)
footprint MAXM-S8+2_M (SOIC, 8-Leads, Body 4.90x3.90mm, Pitch 1.27mm, IPC Low Density)
pins: 1 VCC (power) "Supply Voltage. Use at least a 0.1uF capacitor to decouple VCC from fast transients", 2 NC "No Connection. Not internally connected.", 3 GND (power) "Ground", 4 OUT (out) "Output Voltage. VOUT is proportional to the magnitude of VSENSE (VRS+ - VRS-).", 5 NC "No Connection. Not internally connected.", 6 RS- (in) "Load connection to the external sense resistor.", 7 NC "No Connection. Not internally connected.", 8 RS+ (in) "Power connection to the external-sense resistor."

## MAX4372TESA+T
designator U?
Micropower, Voltage-Output, High-Side, Current-Sense Amplifier, 20 V / V Gain, -40 to 85 degC, 8-Pin SOIC (S8+2), Pb-Free, Tape and Reel; PartNumber: MAX4372TESA+T; Bi-Dir. Curr. Sense: No; Gain: 20 V/V, 50 V/V ,100 V/V; DatasheetVersion: Rev. 5; PackageVersion: Rev. D, 10/2012; PackageReference: S8+2; PackageDescription: 8-Pin Small-Outline IC, Narrow (0.15in) (S8+2), Body 4.90 x 3.90 mm, Pitch 1.27 mm; Supplier 1: Digi-Key; Supplier Part Number 1: MAX4372TESA+T-ND; Supplier 2: Mouser; Supplier Part Number 2: 700-MAX4372TESA+T; Mounting Technology: Surface Mount; Code_JEDEC: MS012; ComponentLink1Description: Manufacturer URL; ComponentLink1URL: http://www.maximintegrated.com/; ComponentLink2Description: Datasheet; ComponentLink2URL: http://datasheets.maximintegrated.com/en/ds/MAX4372-MAX4372T.pdf; ComponentLink3Description: Package Specification; ComponentLink3URL: http://pdfserv.maximintegrated.com/package_dwgs/21-0041.PDF
footprint MAXM-S8+2_N (SOIC, 8-Leads, Body 4.90x3.90mm, Pitch 1.27mm, IPC Medium Density)
footprint MAXM-S8+2_L (SOIC, 8-Leads, Body 4.90x3.90mm, Pitch 1.27mm, IPC High Density)
footprint MAXM-S8+2_M (SOIC, 8-Leads, Body 4.90x3.90mm, Pitch 1.27mm, IPC Low Density)
pins: 1 VCC (power) "Supply Voltage. Use at least a 0.1uF capacitor to decouple VCC from fast transients", 2 NC "No Connection. Not internally connected.", 3 GND (power) "Ground", 4 OUT (out) "Output Voltage. VOUT is proportional to the magnitude of VSENSE (VRS+ - VRS-).", 5 NC "No Connection. Not internally connected.", 6 RS- (in) "Load connection to the external sense resistor.", 7 NC "No Connection. Not internally connected.", 8 RS+ (in) "Power connection to the external-sense resistor."

## MAX4372TESA-T
designator U?
Micropower, Voltage-Output, High-Side, Current-Sense Amplifier, 20 V / V Gain, -40 to 85 degC, 8-Pin SOIC (S8-2), Tape and Reel; PartNumber: MAX4372TESA-T; Bi-Dir. Curr. Sense: No; Gain: 20 V/V, 50 V/V ,100 V/V; DatasheetVersion: Rev. 5; PackageVersion: Rev. D, 10/2012; PackageReference: S8-2; PackageDescription: 8-Pin Small-Outline IC, Narrow (0.15in) (S8-2), Body 4.90 x 3.90 mm, Pitch 1.27 mm; Supplier 1: Mouser; Supplier Part Number 1: N/A; Mounting Technology: Surface Mount; Code_JEDEC: MS012; ComponentLink1Description: Manufacturer URL; ComponentLink1URL: http://www.maximintegrated.com/; ComponentLink2Description: Datasheet; ComponentLink2URL: http://datasheets.maximintegrated.com/en/ds/MAX4372-MAX4372T.pdf; ComponentLink3Description: Package Specification; ComponentLink3URL: http://pdfserv.maximintegrated.com/package_dwgs/21-0041.PDF
footprint MAXM-S8-2_N (SOIC, 8-Leads, Body 4.90x3.90mm, Pitch 1.27mm, IPC Medium Density)
footprint MAXM-S8-2_L (SOIC, 8-Leads, Body 4.90x3.90mm, Pitch 1.27mm, IPC High Density)
footprint MAXM-S8-2_M (SOIC, 8-Leads, Body 4.90x3.90mm, Pitch 1.27mm, IPC Low Density)
pins: 1 VCC (power) "Supply Voltage. Use at least a 0.1uF capacitor to decouple VCC from fast transients", 2 NC "No Connection. Not internally connected.", 3 GND (power) "Ground", 4 OUT (out) "Output Voltage. VOUT is proportional to the magnitude of VSENSE (VRS+ - VRS-).", 5 NC "No Connection. Not internally connected.", 6 RS- (in) "Load connection to the external sense resistor.", 7 NC "No Connection. Not internally connected.", 8 RS+ (in) "Power connection to the external-sense resistor."

## MAX4372TEUK
designator U?
Micropower, Voltage-Output, High-Side, Current-Sense Amplifier, 20 V / V Gain, -40 to +85 degC, 5-Pin SOT23 (U5-1); PartNumber: MAX4372TEUK; Bi-Dir. Curr. Sense: No; Gain: 20 V/V, 50 V/V ,100 V/V; DatasheetVersion: Rev. 5; PackageVersion: Rev. G, 04/2011; PackageReference: U5-1; PackageDescription: 5-Pin Small-Outline Transistor Package (U5-1), Body 2.9 x 1.625 mm, Pitch 0.95 mm; Supplier 1: Mouser; Supplier Part Number 1: N/A; Mounting Technology: Surface Mount; Code_JEDEC: MO178; ComponentLink1Description: Manufacturer URL; ComponentLink1URL: http://www.maximintegrated.com/; ComponentLink2Description: Datasheet; ComponentLink2URL: http://datasheets.maximintegrated.com/en/ds/MAX4372-MAX4372T.pdf; ComponentLink3Description: Package Specification; ComponentLink3URL: http://pdfserv.maximintegrated.com/package_dwgs/21-0057.PDF
footprint MAXM-U5-1_N (SOT23, 5-Leads, Body 2.9x1.625mm, Pitch 0.95mm, IPC Medium Density)
footprint MAXM-U5-1_L (SOT23, 5-Leads, Body 2.9x1.625mm, Pitch 0.95mm, IPC High Density)
footprint MAXM-U5-1_M (SOT23, 5-Leads, Body 2.9x1.625mm, Pitch 0.95mm, IPC Low Density)
pins: 1 GND (power) "Ground", 2 OUT (out) "Output Voltage. VOUT is proportional to the magnitude of VSENSE (VRS+ - VRS-).", 3 VCC (power) "Supply Voltage. Use at least a 0.1 uF capacitor to decouple VCC from fast transients.", 4 RS+ (in) "Power connection to the external sense resistor", 5 RS- (in) "Load-side connection to the external sense resistor"

## MAX4372TEUK+
designator U?
Micropower, Voltage-Output, High-Side, Current-Sense Amplifier, 20 V / V Gain, -40 to 85 degC, 5-Pin SOT23 (U5+1), Pb-Free; PartNumber: MAX4372TEUK+; Bi-Dir. Curr. Sense: No; Gain: 20 V/V, 50 V/V ,100 V/V; DatasheetVersion: Rev. 5; PackageVersion: Rev. G, 04/2011; PackageReference: U5+1; PackageDescription: 5-Pin Small-Outline Transistor Package (U5+1), Body 2.90 x 1.625 mm, Pitch 0.95 mm; Supplier 1: Mouser; Supplier Part Number 1: N/A; Mounting Technology: Surface Mount; Code_JEDEC: MO178; ComponentLink1Description: Manufacturer URL; ComponentLink1URL: http://www.maximintegrated.com/; ComponentLink2Description: Datasheet; ComponentLink2URL: http://datasheets.maximintegrated.com/en/ds/MAX4372-MAX4372T.pdf; ComponentLink3Description: Package Specification; ComponentLink3URL: http://pdfserv.maximintegrated.com/package_dwgs/21-0057.PDF
footprint MAXM-U5+1_N (SOT23, 5-Leads, Body 2.9x1.625mm, Pitch 0.95mm, IPC Medium Density)
footprint MAXM-U5+1_L (SOT23, 5-Leads, Body 2.9x1.625mm, Pitch 0.95mm, IPC High Density)
footprint MAXM-U5+1_M (SOT23, 5-Leads, Body 2.9x1.625mm, Pitch 0.95mm, IPC Low Density)
pins: 1 GND (power) "Ground", 2 OUT (out) "Output Voltage. VOUT is proportional to the magnitude of VSENSE (VRS+ - VRS-).", 3 VCC (power) "Supply Voltage. Use at least a 0.1 uF capacitor to decouple VCC from fast transients.", 4 RS+ (in) "Power connection to the external sense resistor", 5 RS- (in) "Load-side connection to the external sense resistor"

## MAX4372TEUK+T
designator U?
Micropower, Voltage-Output, High-Side, Current-Sense Amplifier, 20 V / V Gain, -40 to 85 degC, 5-Pin SOT23 (U5+1), Pb-Free, Tape and Reel; PartNumber: MAX4372TEUK+T; Bi-Dir. Curr. Sense: No; Gain: 20 V/V, 50 V/V ,100 V/V; DatasheetVersion: Rev. 5; PackageVersion: Rev. G, 04/2011; PackageReference: U5+1; PackageDescription: 5-Pin Small-Outline Transistor Package (U5+1), Body 2.90 x 1.625 mm, Pitch 0.95 mm; Supplier 1: Digi-Key; Supplier Part Number 1: MAX4372TEUK+TTR-ND; Supplier 2: Digi-Key; Supplier Part Number 2: MAX4372TEUK+TCT-ND; Supplier 3: Digi-Key; Supplier Part Number 3: MAX4372TEUK+TDKR-ND; Supplier 4: Mouser; Supplier Part Number 4: 700-MAX4372TEUKT; Mounting Technology: Surface Mount; Code_JEDEC: MO178; ComponentLink1Description: Manufacturer URL; ComponentLink1URL: http://www.maximintegrated.com/; ComponentLink2Description: Datasheet; ComponentLink2URL: http://datasheets.maximintegrated.com/en/ds/MAX4372-MAX4372T.pdf; ComponentLink3Description: Package Specification; ComponentLink3URL: http://pdfserv.maximintegrated.com/package_dwgs/21-0057.PDF
footprint MAXM-U5+1_N (SOT23, 5-Leads, Body 2.9x1.625mm, Pitch 0.95mm, IPC Medium Density)
footprint MAXM-U5+1_L (SOT23, 5-Leads, Body 2.9x1.625mm, Pitch 0.95mm, IPC High Density)
footprint MAXM-U5+1_M (SOT23, 5-Leads, Body 2.9x1.625mm, Pitch 0.95mm, IPC Low Density)
pins: 1 GND (power) "Ground", 2 OUT (out) "Output Voltage. VOUT is proportional to the magnitude of VSENSE (VRS+ - VRS-).", 3 VCC (power) "Supply Voltage. Use at least a 0.1 uF capacitor to decouple VCC from fast transients.", 4 RS+ (in) "Power connection to the external sense resistor", 5 RS- (in) "Load-side connection to the external sense resistor"

## MAX4372TEUK-T
designator U?
Micropower, Voltage-Output, High-Side, Current-Sense Amplifier, 20 V / V Gain, -40 to 85 degC, 5-Pin SOT23 (U5-1), Tape and Reel; PartNumber: MAX4372TEUK-T; Bi-Dir. Curr. Sense: No; Gain: 20 V/V, 50 V/V ,100 V/V; DatasheetVersion: Rev. 5; PackageVersion: Rev. G, 04/2011; PackageReference: U5-1; PackageDescription: 5-Pin Small-Outline Transistor Package (U5-1), Body 2.9 x 1.625 mm, Pitch 0.95 mm; Supplier 1: Digi-Key; Supplier Part Number 1: MAX4372TEUK-TTR-ND; Supplier 2: Digi-Key; Supplier Part Number 2: MAX4372TEUK-TCT-ND; Supplier 3: Mouser; Supplier Part Number 3: 700-MAX4372TEUK-T-NR; Mounting Technology: Surface Mount; Code_JEDEC: MO178; ComponentLink1Description: Manufacturer URL; ComponentLink1URL: http://www.maximintegrated.com/; ComponentLink2Description: Datasheet; ComponentLink2URL: http://datasheets.maximintegrated.com/en/ds/MAX4372-MAX4372T.pdf; ComponentLink3Description: Package Specification; ComponentLink3URL: http://pdfserv.maximintegrated.com/package_dwgs/21-0057.PDF
footprint MAXM-U5-1_N (SOT23, 5-Leads, Body 2.9x1.625mm, Pitch 0.95mm, IPC Medium Density)
footprint MAXM-U5-1_L (SOT23, 5-Leads, Body 2.9x1.625mm, Pitch 0.95mm, IPC High Density)
footprint MAXM-U5-1_M (SOT23, 5-Leads, Body 2.9x1.625mm, Pitch 0.95mm, IPC Low Density)
pins: 1 GND (power) "Ground", 2 OUT (out) "Output Voltage. VOUT is proportional to the magnitude of VSENSE (VRS+ - VRS-).", 3 VCC (power) "Supply Voltage. Use at least a 0.1 uF capacitor to decouple VCC from fast transients.", 4 RS+ (in) "Power connection to the external sense resistor", 5 RS- (in) "Load-side connection to the external sense resistor"

## MAX4373FESA
designator U?
Low-cost, Micropower, High-Side Current-Sense Amplifier + Comparator + Reference, 20 V / V Gain, -40 to 85 degC, 8-Pin SOIC (S8-2); PartNumber: MAX4373FESA; Bi-Dir. Curr. Sense: No; Gain: 20 V/V, 50 V/V ,100 V/V; DatasheetVersion: Rev. 4; PackageVersion: Rev. D, 10/2012; PackageReference: S8-2; PackageDescription: 8-Pin Small-Outline IC, Narrow (0.15in) (S8-2), Body 4.90 x 3.90 mm, Pitch 1.27 mm; Supplier 1: Digi-Key; Supplier Part Number 1: MAX4373FESA-ND; Supplier 2: Mouser; Supplier Part Number 2: 700-MAX4373FESA-NR; Mounting Technology: Surface Mount; Code_JEDEC: MS012; ComponentLink1Description: Manufacturer URL; ComponentLink1URL: http://www.maximintegrated.com/; ComponentLink2Description: Datasheet; ComponentLink2URL: http://datasheets.maximintegrated.com/en/ds/MAX4373-MAX4375.pdf; ComponentLink3Description: Package Specification; ComponentLink3URL: http://pdfserv.maximintegrated.com/package_dwgs/21-0041.PDF
footprint MAXM-S8-2_N (SOIC, 8-Leads, Body 4.90x3.90mm, Pitch 1.27mm, IPC Medium Density)
footprint MAXM-S8-2_L (SOIC, 8-Leads, Body 4.90x3.90mm, Pitch 1.27mm, IPC High Density)
footprint MAXM-S8-2_M (SOIC, 8-Leads, Body 4.90x3.90mm, Pitch 1.27mm, IPC Low Density)
pins: 1 VCC (power) "Supply Voltage Input", 2 OUT (out) "Voltage Output. VOUT is proportional to VSENSE (VRS+ - VRS-).", 3 CIN1 (in) "Comparator Input 1. Positive input of an internal comparator. The negative terminal is connected to a 0.6V internal reference.", 4 GND (power) "Ground", 5 ~{RESET} (in) "Reset Input. Resets the output latch of the comparator at CIN1.", 6 COUT1 (oc) "Open-Drain Comparator Output. Latching output of the comparator controlled by CIN1. Connect R\E\S\E\T\ to GND to disable the latch.", 7 RS- (in) "Load-Side Connection for the External Sense Resistor", 8 RS+ (in) "Power Connection to the External Sense Resistor"